# EAGLE library part CP82C55A-5Z (library Intersil_By_element14_Batch_1)
CMOS Programmable Peripheral Interface
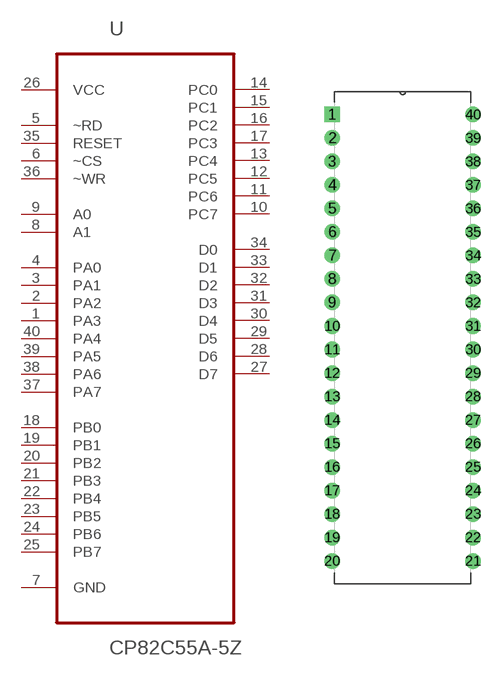
[diagram p22: symbol with the pads of DIP254P1524X635-40; footprint DIP254P1524X635-40]

Designator prefix U

## CP82C55A-5Z (MPN: CP82C55A-5Z; OC_FARNELL: 1018159; OC_NEWARK: 79K6034; PACKAGE: PDIP-40; SUPPLIER: INTERSIL)  [DIP254P1524X635-40]
1  PA3
2  PA2
3  PA1
4  PA0
5  ~RD  in
6  ~CS  in
7  GND  pas
8  A1  in
9  A0  in
10  PC7
11  PC6
12  PC5
13  PC4
14  PC0
15  PC1
16  PC2
17  PC3
18  PB0
19  PB1
20  PB2
21  PB3
22  PB4
23  PB5
24  PB6
25  PB7
26  VCC  pwr
27  D7
28  D6
29  D5
30  D4
31  D3
32  D2
33  D1
34  D0
35  RESET  in
36  ~WR  in
37  PA7
38  PA6
39  PA5
40  PA4

## Footprint DIP254P1524X635-40 (pad centres in mm)
drill 1.118 square: 1 -15.24,48.26
drill 1.118: 2 -15.24,45.72; 3 -15.24,43.18; 4 -15.24,40.64; 5 -15.24,38.1; 6 -15.24,35.56; 7 -15.24,33.02; 8 -15.24,30.48; 9 -15.24,27.94; 10 -15.24,25.4; 11 -15.24,22.86; 12 -15.24,20.32; 13 -15.24,17.78; 14 -15.24,15.24; 15 -15.24,12.7; 16 -15.24,10.16; 17 -15.24,7.62; 18 -15.24,5.08; 19 -15.24,2.54; 20 -15.24,0; 21 0,0; 22 0,2.54; 23 0,5.08; 24 0,7.62; 25 0,10.16; 26 0,12.7; 27 0,15.24; 28 0,17.78; 29 0,20.32; 30 0,22.86; 31 0,25.4; 32 0,27.94; 33 0,30.48; 34 0,33.02; 35 0,35.56; 36 0,38.1; 37 0,40.64; 38 0,43.18; 39 0,45.72; 40 0,48.26